# Altium schematic symbol library PCA9536.SchLib: 1 symbol
Pins are listed as number, name and electrical type; pins without a type are passive.

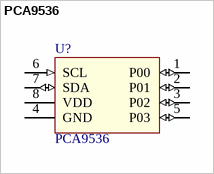
[diagram p0: symbol PCA9536]

## PCA9536
designator U?
Remote 4-Bit I2C and SMBus I/O Expander with Configuration Registers; value: PCA9536
footprint TSSOP-8 (Shrink Small Outline; 8 Leads; Body Width 4.4 mm; Pitch 0.65 mm)
pins: 1 P00 (io), 2 P01 (io), 3 P02 (io), 4 GND (power), 5 P03 (io), 6 SCL (in), 7 SDA (io), 8 VDD (power)